# EAGLE library part TPS62086 (library Octanis1_EPS)
3-A Step-Down Converter with Hiccup Short Circuit Protection in 2x2 QFN Package Fixed 3.3V operation
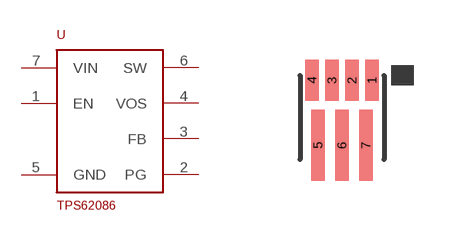
[diagram p7: symbol with the pads of QFN-7; footprint QFN-7]

Designator prefix -

## TPS62086  [QFN-7]
1  EN
2  PG
3  FB
4  VOS
5  GND
6  SW
7  VIN

## Footprint QFN-7 (pad centres in mm)
smd 0.33 x 1.016: 1 1.501,0.127; 2 1.001,0.127; 3 0.5,0.127; 4 0,0.127
smd 0.33 x 1.778: 5 0.15,-1.499; 6 0.749,-1.499; 7 1.349,-1.499